# Altium footprint library Connector.PcbLib: 53 footprints (part 3 of 4)
Each footprint in its own frame and in the unit in brackets; x right, y up, seen from the top. Pads: shape width x height; smd on the part's side, far side on the other; paste and mask are expansions set on the pad; w line width, h text height; cw(c..) or ccw(c..) is an arc to the next point about the centre after c.
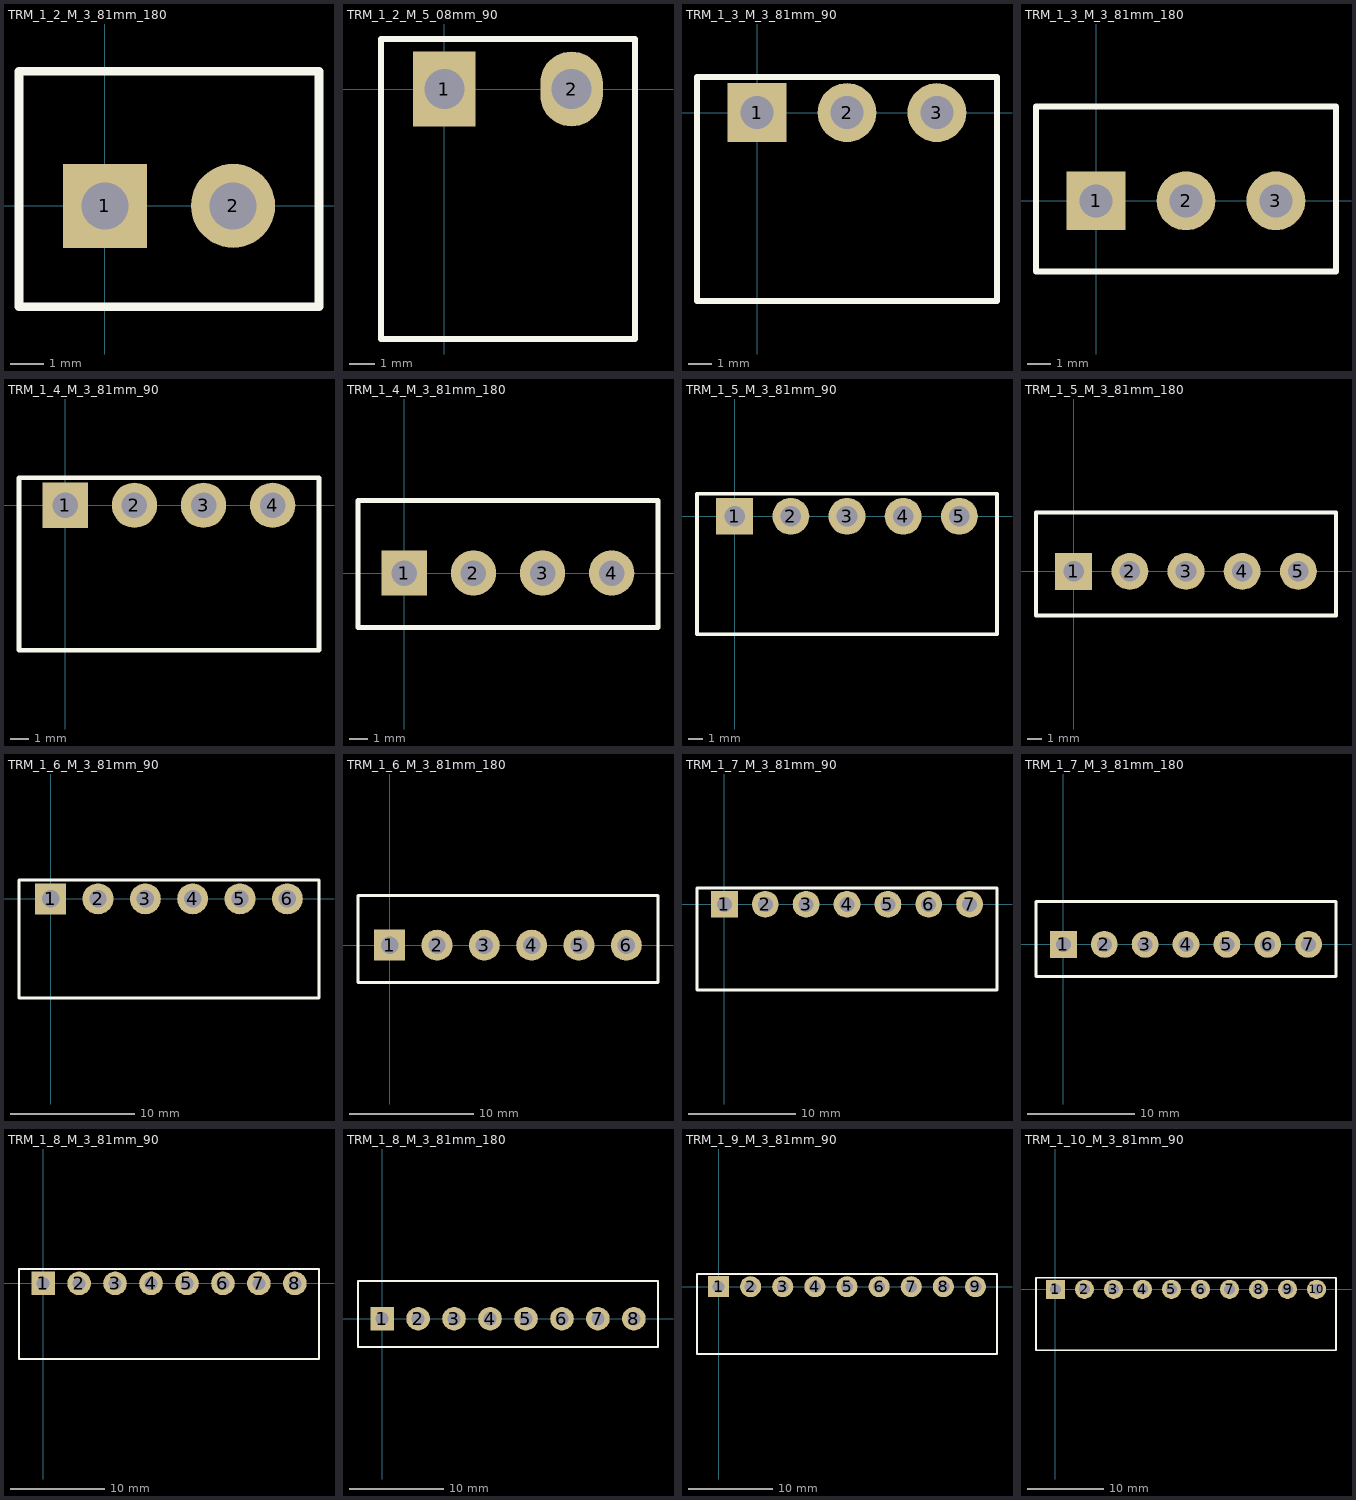
[diagram p2: the footprints below, top view; thin cyan lines are the x and y axes]

## TRM_1_2_M_3_81mm_180 [mm]
height 9.2
pads (2):
  rect 2.5x2.5 hole 1.4: 1(0,0)
  round 2.5 hole 1.4: 2(3.81,0)
Top Overlay:
  lines w0.254: -2.554,-3 6.364,-3 6.364,4 -2.554,4 -2.554,-3
3D body "1803426.stp": height 9.2, standoff -3.4, extent -2.6,-3.125 6.41,4.125

## TRM_1_2_M_5_08mm_90 [mm]
height 8.5
pads (2):
  rect 2.5x3 hole 1.6: 1(0,0)
  oval 2.5x3 hole 1.6: 2(5.08,0)
Top Overlay:
  lines w0.254: -2.54,-10 7.62,-10 7.62,2 -2.54,2 -2.54,-10
3D body "1759017.stp": height 8.6, standoff -3.5, extent -2.54,-10.001 7.62,2.001

## TRM_1_3_M_3_81mm_90 [mm]
height 7
pads (3):
  rect 2.5x2.5 hole 1.4: 1(0,0)
  round 2.5 hole 1.4: 2(3.81,0) 3(7.62,0)
Top Overlay:
  lines w0.254: -2.554,-8 -2.554,1.524 ; -2.54,-8 10.174,-8 10.174,1.524 -2.54,1.524
3D body "Terminal Blocks Pluggable socket, right angle, 3.81 mm pitch, 3 position.stp": height 7.71, standoff -3.41, extent -2.54,-7.775 10.08,1.425

## TRM_1_3_M_3_81mm_180 [mm]
height 9.2
pads (3):
  rect 2.5x2.5 hole 1.4: 1(0,0)
  round 2.5 hole 1.4: 2(3.81,0) 3(7.62,0)
Top Overlay:
  lines w0.254: -2.554,-3 -2.554,4 10.174,4 10.174,-3 -2.554,-3
3D body "1803439.stp": height 9.2, standoff -3.4, extent -2.6,-3.125 10.22,4.125

## TRM_1_4_M_3_81mm_90 [mm]
height 7
pads (4):
  rect 2.5x2.5 hole 1.4: 1(0,0)
  round 2.5 hole 1.4: 2(3.81,0) 3(7.62,0) 4(11.43,0)
Top Overlay:
  lines w0.254: -2.554,-8 -2.554,1.524 ; -2.54,-8 13.984,-8 13.984,1.524 -2.54,1.524
3D body "Terminal Blocks Pluggable socket, right angle, 3.81 mm pitch, 4 position.stp": height 7.71, standoff -3.41, extent -2.49,-7.775 13.94,1.425

## TRM_1_4_M_3_81mm_180 [mm]
height 9.2
pads (4):
  rect 2.5x2.5 hole 1.4: 1(0,0)
  round 2.5 hole 1.4: 2(3.81,0) 3(7.62,0) 4(11.43,0)
Top Overlay:
  lines w0.254: -2.554,-3 -2.554,4 13.984,4 13.984,-3 -2.554,-3
3D body "1803442.stp": height 9.2, standoff -3.4, extent -2.6,-3.125 14.03,4.125

## TRM_1_5_M_3_81mm_90 [mm]
height 7
pads (5):
  rect 2.5x2.5 hole 1.4: 1(0,0)
  round 2.5 hole 1.4: 2(3.81,0) 3(7.62,0) 4(11.43,0) 5(15.24,0)
Top Overlay:
  lines w0.254: -2.554,-8 -2.554,1.524 ; -2.54,-8 17.794,-8 17.794,1.524 -2.54,1.524
3D body "Terminal Blocks Pluggable socket, right angle, 3.81 mm pitch, 5 position.stp": height 7.71, standoff -3.41, extent -2.54,-7.803 17.7,1.397

## TRM_1_5_M_3_81mm_180 [mm]
height 9.2
pads (5):
  rect 2.5x2.5 hole 1.4: 1(0,0)
  round 2.5 hole 1.4: 2(3.81,0) 3(7.62,0) 4(11.43,0) 5(15.24,0)
Top Overlay:
  lines w0.254: -2.554,-3 -2.554,4 17.794,4 17.794,-3 -2.554,-3
3D body "1803455.stp": height 9.2, standoff -3.4, extent -2.6,-3.125 17.84,4.125

## TRM_1_6_M_3_81mm_90 [mm]
height 7
pads (6):
  rect 2.5x2.5 hole 1.4: 1(0,0)
  round 2.5 hole 1.4: 2(3.81,0) 3(7.62,0) 4(11.43,0) 5(15.24,0) 6(19.05,0)
Top Overlay:
  lines w0.254: -2.554,-8 -2.554,1.524 ; -2.54,-8 21.604,-8 21.604,1.524 -2.54,1.524
3D body "Terminal Blocks Pluggable socket, right angle, 3.81 mm pitch, 6 position.stp": height 7.71, standoff -3.41, extent -2.49,-7.775 21.56,1.425

## TRM_1_6_M_3_81mm_180 [mm]
height 9.2
pads (6):
  rect 2.5x2.5 hole 1.4: 1(0,0)
  round 2.5 hole 1.4: 2(3.81,0) 3(7.62,0) 4(11.43,0) 5(15.24,0) 6(19.05,0)
Top Overlay:
  lines w0.254: -2.554,-3 -2.554,4 21.604,4 21.604,-3 -2.554,-3
3D body "1803468.stp": height 9.2, standoff -3.4, extent -2.6,-3.125 21.65,4.125

## TRM_1_7_M_3_81mm_90 [mm]
height 7
pads (7):
  rect 2.5x2.5 hole 1.4: 1(0,0)
  round 2.5 hole 1.4: 2(3.81,0) 3(7.62,0) 4(11.43,0) 5(15.24,0) 6(19.05,0) 7(22.86,0)
Top Overlay:
  lines w0.254: -2.554,-8 -2.554,1.524 ; -2.54,-8 25.4,-8 ; -2.54,1.524 25.4,1.524 ; 25.414,-8 25.414,1.524
3D body "Terminal Blocks Pluggable socket, right angle, 3.81 mm pitch, 7 position.stp": height 7.71, standoff -3.41, extent -2.54,-7.803 25.32,1.397

## TRM_1_7_M_3_81mm_180 [mm]
height 9.2
pads (7):
  rect 2.5x2.5 hole 1.4: 1(0,0)
  round 2.5 hole 1.4: 2(3.81,0) 3(7.62,0) 4(11.43,0) 5(15.24,0) 6(19.05,0) 7(22.86,0)
Top Overlay:
  lines w0.254: -2.554,-3 -2.554,4 25.414,4 25.414,-3 -2.554,-3
3D body "1803426.stp": height 9.2, standoff -3.4, extent 16.45,-3.125 25.46,4.125
3D body "1803455.stp": height 9.2, standoff -3.4, extent -2.6,-3.125 17.84,4.125

## TRM_1_8_M_3_81mm_90 [mm]
height 7
pads (8):
  rect 2.5x2.5 hole 1.4: 1(0,0)
  round 2.5 hole 1.4: 2(3.81,0) 3(7.62,0) 4(11.43,0) 5(15.24,0) 6(19.05,0) 7(22.86,0) 8(26.67,0)
Top Overlay:
  lines w0.254: -2.554,1.524 -2.554,-8 29.224,-8.001 29.224,1.524 ; -2.54,1.524 -2.441,1.524 29.21,1.524
3D body "Terminal Blocks Pluggable socket, right angle, 3.81 mm pitch, 8 position.stp": height 7.71, standoff -3.41, extent -2.54,-7.775 29.13,1.425

## TRM_1_8_M_3_81mm_180 [mm]
height 9.2
pads (8):
  rect 2.5x2.5 hole 1.4: 1(0,0)
  round 2.5 hole 1.4: 2(3.81,0) 3(7.62,0) 4(11.43,0) 5(15.24,0) 6(19.05,0) 7(22.86,0) 8(26.67,0)
Top Overlay:
  lines w0.254: -2.554,-3 -2.554,4 29.224,4 29.224,-3 -2.554,-3
3D body "1803484.stp": height 9.2, standoff -3.4, extent -2.6,-3.025 29.27,4.225

## TRM_1_9_M_3_81mm_90 [mm]
height 7
pads (9):
  rect 2.5x2.5 hole 1.4: 1(0,0)
  round 2.5 hole 1.4: 2(3.81,0) 3(7.62,0) 4(11.43,0) 5(15.24,0) 6(19.05,0) 7(22.86,0) 8(26.67,0) 9(30.48,0)
Top Overlay:
  lines w0.254: -2.554,1.524 -2.554,-8 33.034,-8.001 33.034,1.524 -2.441,1.524 -2.54,1.524
3D body "Terminal Blocks Pluggable socket, right angle, 3.81 mm pitch, 9 position.stp": height 7.71, standoff -3.41, extent -2.413,-7.775 33.067,1.425

## TRM_1_10_M_3_81mm_90 [mm]
height 7
pads (10):
  rect 2.5x2.5 hole 1.4: 1(0,0)
  round 2.5 hole 1.4: 2(3.81,0) 3(7.62,0) 4(11.43,0) 5(15.24,0) 6(19.05,0) 7(22.86,0) 8(26.67,0) 9(30.48,0) 10(34.29,0)
Top Overlay:
  lines w0.254: -2.554,1.524 -2.554,-8 36.844,-8.001 36.844,1.524 -2.441,1.524 -2.54,1.524
3D body "Terminal Blocks Pluggable socket, right angle, 3.81 mm pitch, 10 position.stp": height 7.71, standoff -3.41, extent -2.54,-7.775 36.75,1.425